# Altium schematic symbol library 202656-0021.SchLib: 1 symbol
Pins are listed as number, name and electrical type; pins without a type are passive.

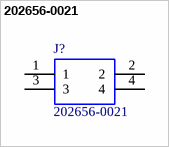
[diagram p0: symbol 202656-0021]

## 202656-0021
designator J?
MOLEX - 202656-0021 - PLUG HOUSING, 2POS, NYLON, BLACK; Geometry.Height: 1mm; Manufacturer_Name: Molex; Manufacturer_Part_Number: 202656-0021; RS Part Number: *; RS Price/Stock: *; Mouser Part Number: 538-202656-0021; Mouser Price/Stock: https://www.mouser.com/Search/Refine.aspx?Keyword=538-202656-0021; Datasheet Link: https://www.molex.com/webdocs/datasheets/pdf/en-us/2026560021_PCB_HEADERS.pdf
footprint 2026560021
pins: 1, 2, 3, 4